# Altium schematic symbol library REG101.Schlib: 1 symbol
Pins are listed as number, name and electrical type; pins without a type are passive.

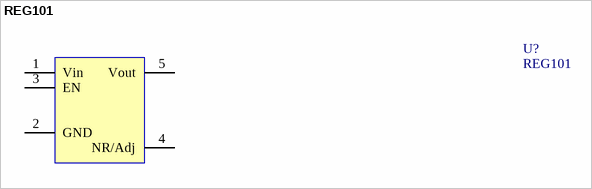
[diagram p0: symbol REG101]

## REG101
designator U?
IC, DC/DC Converter
pins: 1 Vin, 2 GND, 3 EN, 4 NR/Adj, 5 Vout